# Altium schematic symbol library SparkFun-IC-Memory.SCHLIB: 14 symbols
Pins are listed as number, name and electrical type; pins without a type are passive.

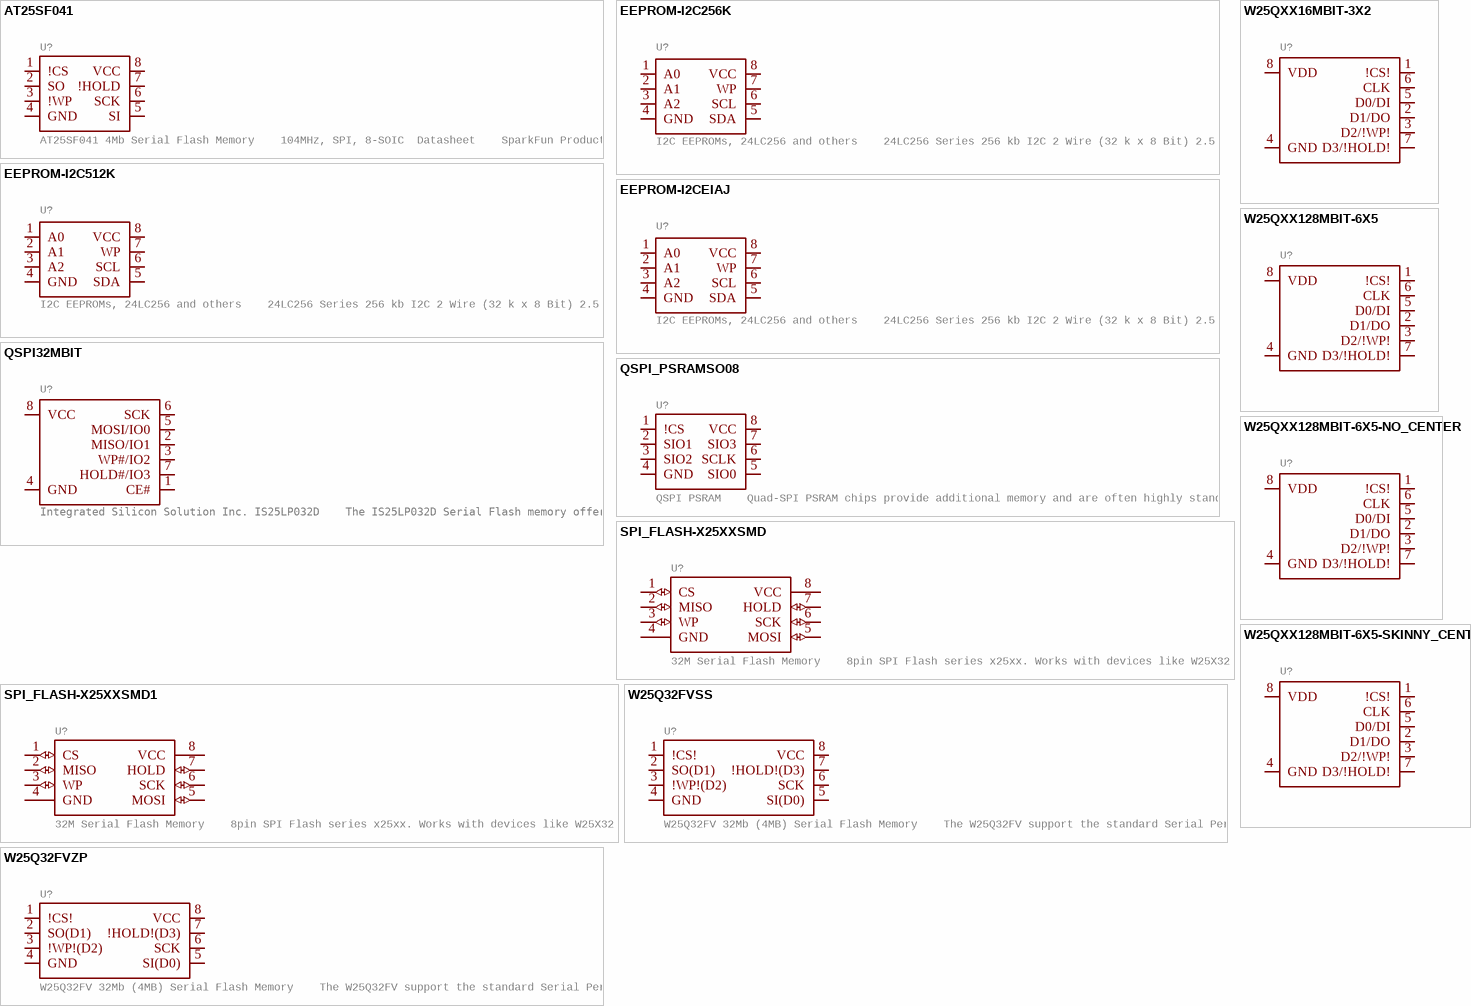
[diagram p0: symbols AT25SF041 to W25QXX128MBIT-6X5-SKINNY_CENTER]

## AT25SF041
designator U?, comment AT25SF041 4Mb Serial Flash Memory    104MHz, SPI, 8-SOIC  Datasheet    SparkFun Products: SparkFun ESP8266 Thing  SparkFun ESP8266 Thing - Dev Board
GateName_1: G$1; SymbolName_1: SPI_FLASH_DUAL/QUAD; PROD_ID: IC-12455; LibraryName: SparkFun-IC-Memory; DeviceSetName: AT25SF041; Package: SO08
footprint SO08
pins: 1 !CS (io), 2 SO (io), 3 !WP (io), 4 GND (io), 5 SI (io), 6 SCK (io), 7 !HOLD (io), 8 VCC (io)

## EEPROM-I2C256K
designator U?, comment I2C EEPROMs, 24LC256 and others    24LC256 Series 256 kb I2C 2 Wire (32 k x 8 Bit) 2.5 V Serial EEPROM SMD - SOIC-8    Datasheet SparkFun Products  SparkFun UDB5 - PIC UAV Development Board (GPS-11703)
GateName_1: G$1; SymbolName_1: EEPROM-I2C; DeviceName: 256K; PROD_ID: IC-09714; LibraryName: SparkFun-IC-Memory; DeviceSetName: EEPROM-I2C; Package: SO08
footprint SO08
pins: 1 A0 (io), 2 A1 (io), 3 A2 (io), 4 GND (power), 5 SDA (io), 6 SCL (io), 7 WP (io), 8 VCC (power)

## EEPROM-I2C512K
designator U?, comment I2C EEPROMs, 24LC256 and others    24LC256 Series 256 kb I2C 2 Wire (32 k x 8 Bit) 2.5 V Serial EEPROM SMD - SOIC-8    Datasheet SparkFun Products  SparkFun UDB5 - PIC UAV Development Board (GPS-11703)
GateName_1: G$1; SymbolName_1: EEPROM-I2C; DeviceName: 512K; PROD_ID: IC-14645; LibraryName: SparkFun-IC-Memory; DeviceSetName: EEPROM-I2C; Package: SO08
footprint SO08
pins: 1 A0 (io), 2 A1 (io), 3 A2 (io), 4 GND (power), 5 SDA (io), 6 SCL (io), 7 WP (io), 8 VCC (power)

## EEPROM-I2CEIAJ
designator U?, comment I2C EEPROMs, 24LC256 and others    24LC256 Series 256 kb I2C 2 Wire (32 k x 8 Bit) 2.5 V Serial EEPROM SMD - SOIC-8    Datasheet SparkFun Products  SparkFun UDB5 - PIC UAV Development Board (GPS-11703)
GateName_1: G$1; SymbolName_1: EEPROM-I2C; DeviceName: EIAJ; PROD_ID: NA-XXXXX; LibraryName: SparkFun-IC-Memory; DeviceSetName: EEPROM-I2C; Package: SO08-EIAJ
footprint SO08-EIAJ
pins: 1 A0 (io), 2 A1 (io), 3 A2 (io), 4 GND (power), 5 SDA (io), 6 SCL (io), 7 WP (io), 8 VCC (power)

## QSPI32MBIT
designator U?, comment Integrated Silicon Solution Inc. IS25LP032D    The IS25LP032D Serial Flash memory offers a versatile storage solution with high flexibility and performance in a simplified pin count package. ISSIâ€™s â€œIndustry Standard Serial Interfaceâ€ Flash is for systems that require limited space, a low pin count, and low power consumption. The device is accessed through a 4-wire SPI Interface consisting of a Serial Data Input (SI), Serial Data Output (SO), Serial Clock (SCK), and Chip Enable (CE#) pins, which can also be configured to serve as multi-I/O (see pin descriptions).     Datasheet
GateName_1: G$1; SymbolName_1: QSPI_FLASH; DeviceSetName: QSPI32MBIT; PROD_ID: IC-14501; LibraryName: SparkFun-IC-Memory; Package: SO08
footprint SO08
pins: 1 CE# (io), 2 MISO/IO1 (io), 3 WP#/IO2 (io), 4 GND (io), 5 MOSI/IO0 (io), 6 SCK (io), 7 HOLD#/IO3 (io), 8 VCC (io)

## QSPI_PSRAMSO08
designator U?, comment QSPI PSRAM    Quad-SPI PSRAM chips provide additional memory and are often highly standardized Example Parts  LY68L6400SLIT
GateName_1: G$1; SymbolName_1: QSPI_PSRAM; DeviceName: SO08; LibraryName: SparkFun-IC-Memory; DeviceSetName: QSPI_PSRAM; Package: SO08
footprint SO08
pins: 1 !CS (io), 2 SIO1 (io), 3 SIO2 (io), 4 GND (io), 5 SIO0 (io), 6 SCLK (io), 7 SIO3 (io), 8 VCC (io)

## SPI_FLASH-X25XXSMD
designator U?, comment 32M Serial Flash Memory    8pin SPI Flash series x25xx. Works with devices like W25X32 and BR25L32 Datasheet  SparkFun Products  SparkFun Venus GPS Logger (GPS-10920)
GateName_1: G$1; SymbolName_1: SPI_FLASH; DeviceName: SMD; DeviceSetName: SPI_FLASH-X25XX; LibraryName: SparkFun-IC-Memory; Package: SO08; PROD_ID: N/A
footprint SO08
pins: 1 CS (io), 2 MISO (io), 3 WP (io), 4 GND (power), 5 MOSI (io), 6 SCK (io), 7 HOLD (io), 8 VCC (power)

## SPI_FLASH-X25XXSMD1
designator U?, comment 32M Serial Flash Memory    8pin SPI Flash series x25xx. Works with devices like W25X32 and BR25L32 Datasheet  SparkFun Products  SparkFun Venus GPS Logger (GPS-10920)
GateName_1: G$1; SymbolName_1: SPI_FLASH; DeviceName: SMD1; DeviceSetName: SPI_FLASH-X25XX; PROD_ID: IC-09109; LibraryName: SparkFun-IC-Memory; Package: SO08-EIAJ
footprint SO08-EIAJ
pins: 1 CS (io), 2 MISO (io), 3 WP (io), 4 GND (power), 5 MOSI (io), 6 SCK (io), 7 HOLD (io), 8 VCC (power)

## W25Q32FVSS
designator U?, comment W25Q32FV 32Mb (4MB) Serial Flash Memory    The W25Q32FV support the standard Serial Peripheral Interface (SPI), Dual/Quad I/O SPI as  well as 2-clocks instruction cycle Quad Peripheral Interface (QPI).   104MHz, SPI, 8-SOIC-EIAJ   Datasheet SparkFun Products  SparkFun Blynk Board - ESP8266 (WRL-13794)
GateName_1: G$1; DeviceName: SS; PROD_ID: IC-13229; SymbolName_1: W25Q32FV; LibraryName: SparkFun-IC-Memory; DeviceSetName: W25Q32FV; Package: SOIC-8
footprint SOIC-8
pins: 1 !CS! (io), 2 SO(D1) (io), 3 !WP!(D2) (io), 4 GND (io), 5 SI(D0) (io), 6 SCK (io), 7 !HOLD!(D3) (io), 8 VCC (io)

## W25Q32FVZP
designator U?, comment W25Q32FV 32Mb (4MB) Serial Flash Memory    The W25Q32FV support the standard Serial Peripheral Interface (SPI), Dual/Quad I/O SPI as  well as 2-clocks instruction cycle Quad Peripheral Interface (QPI).   104MHz, SPI, 8-SOIC-EIAJ   Datasheet SparkFun Products  SparkFun Blynk Board - ESP8266 (WRL-13794)
GateName_1: G$1; DeviceName: ZP; PROD_ID: NA-XXXXX; SymbolName_1: W25Q32FV; LibraryName: SparkFun-IC-Memory; DeviceSetName: W25Q32FV; Package: WSON8-6X5MM
footprint WSON8-6X5MM
pins: 1 !CS! (io), 2 SO(D1) (io), 3 !WP!(D2) (io), 4 GND (io), 5 SI(D0) (io), 6 SCK (io), 7 !HOLD!(D3) (io), 8 VCC (io)

## W25QXX16MBIT-3X2
designator U?
GateName_1: U1; SymbolName_1: W25QXX; DeviceName: 16MBIT-3X2; PROD_ID: IC-14905; LibraryName: SparkFun-IC-Memory; DeviceSetName: W25QXX; Package: USON-8
footprint USON-8
pins: 1 !CS! (io), 2 D1/DO (io), 3 D2/!WP! (io), 4 GND (io), 5 D0/DI (io), 6 CLK (io), 7 D3/!HOLD! (io), 8 VDD (io)

## W25QXX128MBIT-6X5
designator U?
GateName_1: U1; SymbolName_1: W25QXX; DeviceName: 128MBIT-6X5; PROD_ID: IC-15107; LibraryName: SparkFun-IC-Memory; DeviceSetName: W25QXX; Package: WSON-8-6X5
footprint WSON-8-6X5
pins: 1 !CS! (io), 2 D1/DO (io), 3 D2/!WP! (io), 4 GND (io), 5 D0/DI (io), 6 CLK (io), 7 D3/!HOLD! (io), 8 VDD (io)

## W25QXX128MBIT-6X5-NO_CENTER
designator U?
GateName_1: U1; SymbolName_1: W25QXX; DeviceName: 128MBIT-6X5-NO_CENTER; PROD_ID: IC-15107; LibraryName: SparkFun-IC-Memory; DeviceSetName: W25QXX; Package: WSON-8-6X5-NO_CENTERPAD
footprint WSON-8-6X5-NO_CENTERPAD
pins: 1 !CS! (io), 2 D1/DO (io), 3 D2/!WP! (io), 4 GND (io), 5 D0/DI (io), 6 CLK (io), 7 D3/!HOLD! (io), 8 VDD (io)

## W25QXX128MBIT-6X5-SKINNY_CENTER
designator U?
GateName_1: U1; SymbolName_1: W25QXX; DeviceName: 128MBIT-6X5-SKINNY_CENTER; PROD_ID: IC-15107; LibraryName: SparkFun-IC-Memory; DeviceSetName: W25QXX; Package: WSON-8-6X5-SKINNY_CENTERPAD
footprint WSON-8-6X5-SKINNY_CENTERPAD
pins: 1 !CS! (io), 2 D1/DO (io), 3 D2/!WP! (io), 4 GND (io), 5 D0/DI (io), 6 CLK (io), 7 D3/!HOLD! (io), 8 VDD (io)